# Altium footprint library GCT_USB4515-GF-A_REVA.PcbLib: 1 footprints
Each footprint in its own frame and in the unit in brackets; x right, y up, seen from the top. Pads: shape width x height; smd on the part's side, far side on the other; paste and mask are expansions set on the pad; w line width, h text height; cw(c..) or ccw(c..) is an arc to the next point about the centre after c.
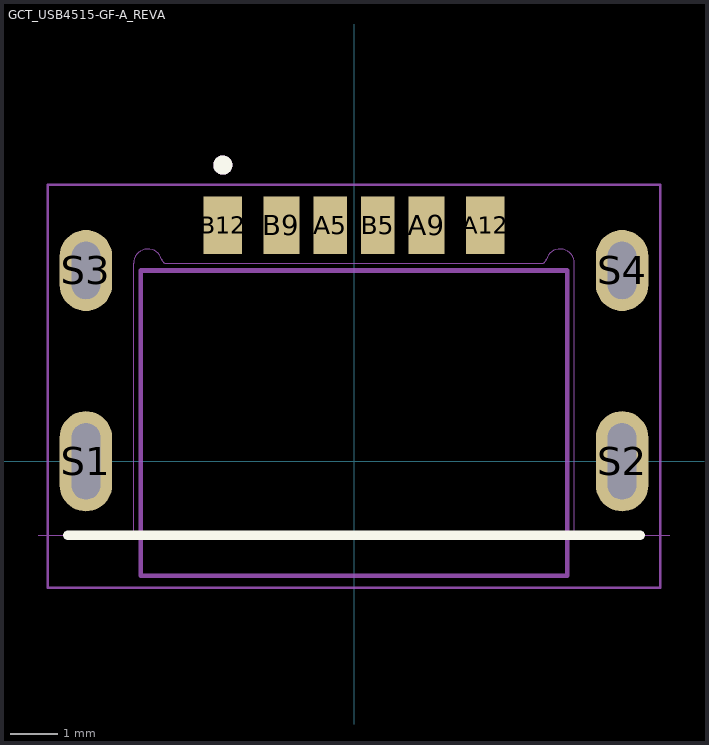
[diagram p0: the footprint, top view; thin cyan lines are the x and y axes]

## GCT_USB4515-GF-A_REVA [mm]
height 3.16
pads (10):
  rect 0.7x1.2 smd: A5(-0.5,4.95) B5(0.5,4.95)
  rect 0.76x1.2 smd: A9(1.52,4.95) B9(-1.52,4.95)
  rect 0.8x1.2 smd: A12(2.75,4.95) B12(-2.75,4.95)
  oval 1.1x2.1 hole 0.6 slot 1.6 at 90 deg: S1(-5.62,0) S2(5.62,0)
  oval 1.1x1.7 hole 0.6 slot 1.2 at 90 deg: S3(-5.62,4) S4(5.62,4)
Top Overlay:
  circle w0.2: c-2.75,6.21 r0.1
  lines w0.2: -6,-1.55 6,-1.55
Mechanical 1:
  lines w0: -6.62,-1.55 -4.62,-1.55 -4.62,4.15 cw(c-4.32,4.15) -4.029,4.228 ; -4.03,4.23 ccw(c-3.936,4.244) -3.95,4.15 3.95,4.15 ccw(c3.936,4.244) 4.03,4.23 ; 4.029,4.228 cw(c4.32,4.15) 4.62,4.15 4.62,-1.55 6.62,-1.55
Mechanical 13:
  circle w0.2: c-2.75,6.21 r0.1
  lines w0.1: -6,-1.55 6,-1.55 ; -4.47,-2.4 -4.47,4 4.47,4 4.47,-2.4 -4.47,-2.4
  text "PCB EDGE" at 6.64,-1.4 h0.41
Mechanical 15:
  lines w0.05: -6.42,-2.65 -6.42,5.8 6.42,5.8 6.42,-2.65 -6.42,-2.65
3D body "step_temp.STEP": height 1.56, standoff -1.6, extent -5.77,-2.4 5.77,5.1